# Altium footprint library MyLib_Transistor.PcbLib: 3 footprints
Each footprint in its own frame and in the unit in brackets; x right, y up, seen from the top. Pads: shape width x height; smd on the part's side, far side on the other; paste and mask are expansions set on the pad; w line width, h text height; cw(c..) or ccw(c..) is an arc to the next point about the centre after c.
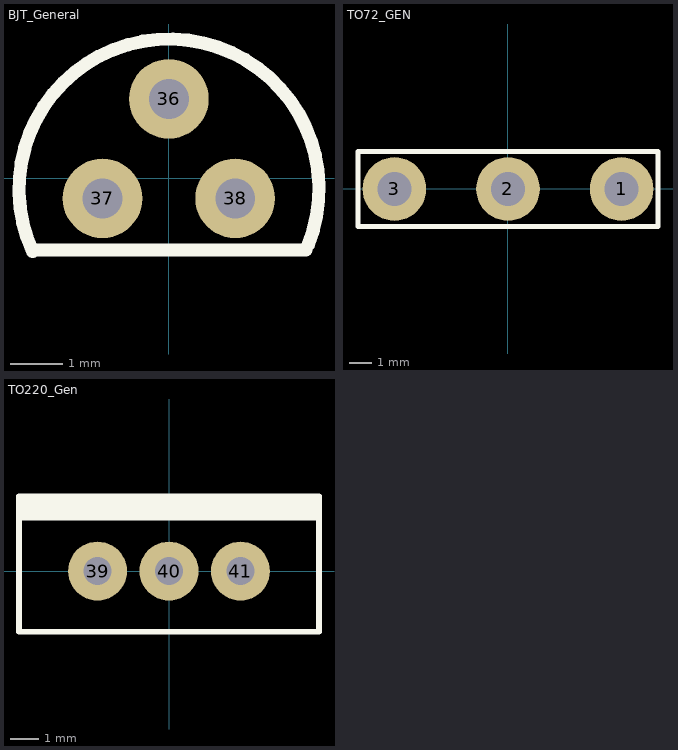
[diagram p0: the footprints below, top view; thin cyan lines are the x and y axes]

## BJT_General [mil]
pads (3):
  round 60 hole 30: 36(0,60) 37(-50,-15) 38(50,-15)
Top Overlay:
  lines w9.84: -100,-53.8 103.18,-53.8
  lines w10: -102.63,-55 cw(c0.11,-7.91) 105,-50
3D body "User Library-TO-92-3.STEP": height 327.95, standoff -157.48, extent -104.72,-75 104.72,88.78

## TO72_GEN [mm]
pads (3):
  round 2.8 hole 1.5: 1(5,0) 2(0,0) 3(-5,0)
Top Overlay:
  lines w0.2: -6.604,-1.651 -6.604,1.651 6.604,1.651 6.604,-1.651 -6.604,-1.651

## TO220_Gen [mm] "TO220"
pads (3):
  round 2.1 hole 1: 39(-2.54,0) 40(0,0) 41(2.54,0)
Top Overlay:
  lines w0.2: -5.334,1.905 5.207,1.905 ; -5.334,2.032 5.334,2.032 ; -5.334,2.286 5.334,2.286 ; -5.207,2.159 5.207,2.159 ; -5.334,-2.159 -5.334,2.667 5.334,2.667 5.334,-2.159 -5.334,-2.159
  lines w0.35: -5.207,2.413 5.207,2.413
3D body "User Library-TO-220AB.STEP": height 20.86, standoff -3, extent -5.335,-2.159 5.335,2.671